# Altium integrated library Hi219M_IMU_Lib.IntLib: 1 symbol
Pins are listed as number, name and electrical type; pins without a type are passive.

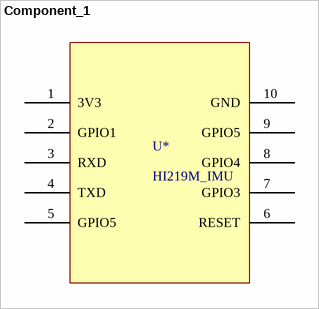
[diagram p0: symbol Component_1]

## Component_1
designator U*, comment HI219M_IMU
footprint SON127P1220X265-10N (SON, 10-Leads, Body 12.25x12.25mm, Pitch 1.27mm, IPC Medium Density)
pins: 1 3V3, 2 GPIO1, 3 RXD, 4 TXD, 5 GPIO5, 6 RESET, 7 GPIO3, 8 GPIO4, 9 GPIO5, 10 GND